# EAGLE library part EK-TM4C123GXL (library EK-TM4C123GXL)
Texas Instruments TM4C123 LaunchPad EK-TM4C123GXL www.ti.com/tool/ek-tm4c123gxl
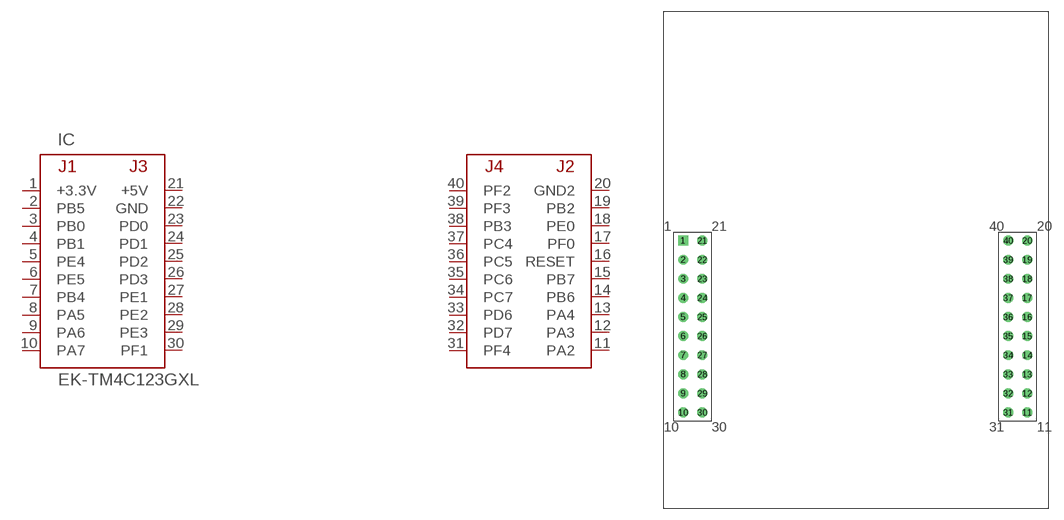
[diagram p0: symbol with the pads of TM4C123LAUNCHPAD; footprint TM4C123LAUNCHPAD]

Designator prefix IC

## EK-TM4C123GXLP (AVAILABILITY: Unavailable; DESCRIPTION: TM4C123G LaunchPad™ Tiva™ C ARM® Cortex®-M4F MCU 32-Bit Embedded Evaluation Board; MF: Texas Instruments; MP: EK-TM4C123GXL; PACKAGE: None; PRICE: None)  [TM4C123LAUNCHPAD]
1  +3.3V  pwr
2  PB5
3  PB0
4  PB1
5  PE4
6  PE5
7  PB4
8  PA5
9  PA6
10  PA7
11  PA2
12  PA3
13  PA4
14  PB6
15  PB7
16  RESET  in
17  PF0
18  PE0
19  PB2
20  GND2  pwr
21  +5V  pwr
22  GND  pwr
23  PD0
24  PD1
25  PD2
26  PD3
27  PE1
28  PE2
29  PE3
30  PF1
31  PF4
32  PD7
33  PD6
34  PC7
35  PC6
36  PC5
37  PC4
38  PB3
39  PF3
40  PF2

## Footprint TM4C123LAUNCHPAD (pad centres in mm)
Two Dual In Line Samtec ESW-110-37-L-D or FCI 67997-210HLF, Digikey 609-3236-ND
drill 0.8 square: 1 -22.86,12.7
drill 0.8: 2 -22.86,10.16; 3 -22.86,7.62; 4 -22.86,5.08; 5 -22.86,2.54; 6 -22.86,0; 7 -22.86,-2.54; 8 -22.86,-5.08; 9 -22.86,-7.62; 10 -22.86,-10.16; 11 22.86,-10.16; 12 22.86,-7.62; 13 22.86,-5.08; 14 22.86,-2.54; 15 22.86,0; 16 22.86,2.54; 17 22.86,5.08; 18 22.86,7.62; 19 22.86,10.16; 20 22.86,12.7; 21 -20.32,12.7; 22 -20.32,10.16; 23 -20.32,7.62; 24 -20.32,5.08; 25 -20.32,2.54; 26 -20.32,0; 27 -20.32,-2.54; 28 -20.32,-5.08; 29 -20.32,-7.62; 30 -20.32,-10.16; 31 20.32,-10.16; 32 20.32,-7.62; 33 20.32,-5.08; 34 20.32,-2.54; 35 20.32,0; 36 20.32,2.54; 37 20.32,5.08; 38 20.32,7.62; 39 20.32,10.16; 40 20.32,12.7